# Altium footprint library VirtualWire_BreadBoard.PcbLib: 1 footprints
Each footprint in its own frame and in the unit in brackets; x right, y up, seen from the top. Pads: shape width x height; smd on the part's side, far side on the other; paste and mask are expansions set on the pad; w line width, h text height; cw(c..) or ccw(c..) is an arc to the next point about the centre after c.
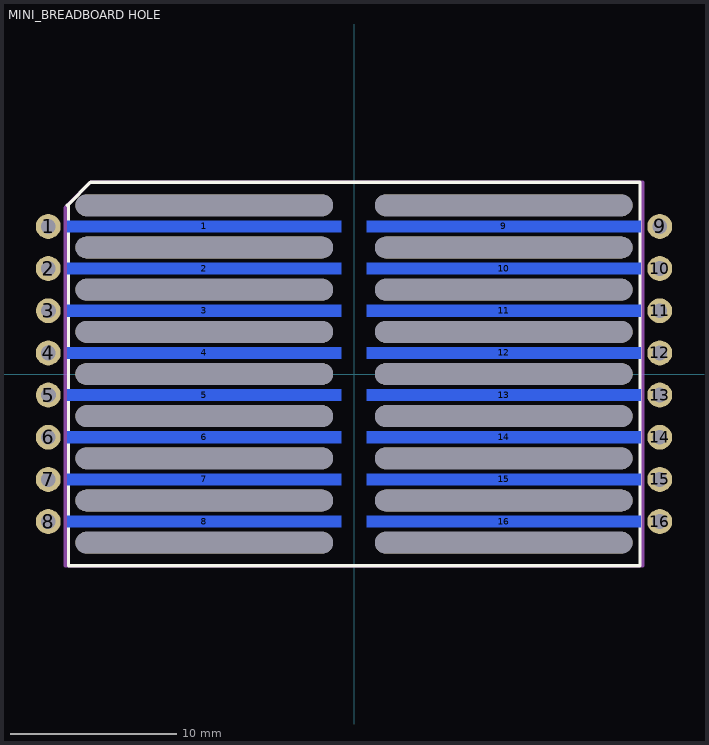
[diagram p0: the footprint, top view; thin cyan lines are the x and y axes]

## MINI_BREADBOARD HOLE [mm]
pads (50):
  round 1.5 hole 0.9: 1(-18.415,8.89) 2(-18.415,6.35) 3(-18.414,3.81) 4(-18.415,1.27) 5(-18.414,-1.27) 6(-18.415,-3.81) 7(-18.415,-6.35) 8(-18.415,-8.89) 9(18.415,8.89) 10(18.415,6.35) 11(18.415,3.81) 12(18.415,1.27) 13(18.415,-1.27) 14(18.415,-3.81) 15(18.415,-6.35) 16(18.415,-8.89)
  rect 16.5x0.7 smd far side mask+0.05: 1(-9.017,8.89) 2(-9.017,6.35) 3(-9.017,3.81) 4(-9.017,1.27) 5(-9.017,-1.27) 6(-9.017,-3.81) 7(-9.017,-6.35) 8(-9.017,-8.89) 9(9.017,8.89) 10(9.017,6.35) 11(9.017,3.81) 12(9.017,1.27) 13(9.017,-1.27) 14(9.017,-3.81) 15(9.017,-6.35) 16(9.017,-8.89)
  rrect100% 15.5x1.3 hole 1.3 slot 15.5 at 0 deg unplated mask+0.05: ""(-9.017,-10.16) ""(-9.017,-7.62) ""(-9.017,-5.08) ""(-9.017,-2.54) ""(-9.017,0) ""(-9.017,2.54) ""(-9.017,5.08) ""(-9.017,7.62) ""(-9.017,10.16) ""(9.017,-10.16) ""(9.017,-7.62) ""(9.017,-5.08) ""(9.017,-2.54) ""(9.017,0) ""(9.017,2.54) ""(9.017,5.08) ""(9.017,7.62) ""(9.017,10.16)
Top Overlay:
  lines w0.2: -17.272,10.16 -17.247,10.16 ; -17.196,-11.557 -8.699,-11.557 8.445,-11.557 17.221,-11.557 17.221,11.557 5.715,11.557 -5.664,11.557 -15.875,11.557 -17.196,10.236 -17.196,-11.557
Assembly:
  lines w0.2: -17.272,10.16 -17.247,10.16 ; -17.399,-11.557 -17.399,10.033 -15.875,11.557 -5.664,11.557 5.715,11.557 17.399,11.557 17.399,-11.557 8.445,-11.557 -8.699,-11.557 -17.399,-11.557
  text "'.Designator'" at -10.922,-0.635 h2
3D body: height 22.75, standoff -20.37, extent 43.307,-0.762 43.307,-0.762
3D body "20190415_breadboard_ver3.stp": height 8.51, standoff 0.01, extent -17.25,-11.345 17.25,11.485
3D body: height 22.75, standoff -0.08, extent -3.81,13.97 -3.81,13.97
3D body: height 0.25, standoff 0, extent 1.27,15.24 1.27,15.24